# Altium integrated library SN37A12A.IntLib: 1 symbol
Pins are listed as number, name and electrical type; pins without a type are passive.

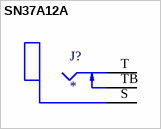
[diagram p0: symbol SN37A12A]

## SN37A12A
designator J?
MP: SN37A12A; Package: None; Price: None; Value: *; Availability: Unavailable
footprint SWITCHCRAFT_SN37A12A
pins: S, T, TB